# EAGLE library part A3949 (library Gyros)
DMOS Full-Bridge Motor Driver PWM controlled motor driver, capable of +/- 2.8A at up to 36V. Temp range -20 to 85 C
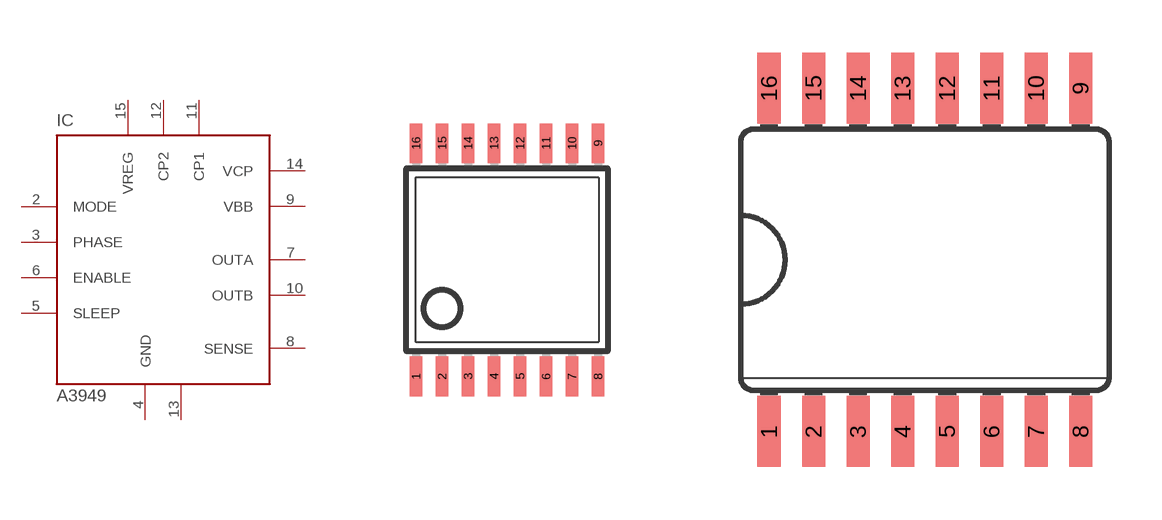
[diagram p17: symbol with the pads of TSSOP16; footprints TSSOP16, SO16L]

Designator prefix IC

## A3949SLP  [TSSOP16]
2  MODE  in
3  PHASE  in
4  GND  pwr
5  SLEEP  in
6  ENABLE  in
7  OUTA  out
8  SENSE  in
9  VBB  pwr
10  OUTB  out
11  CP1
12  CP2
13  GND2  pwr
14  VCP
15  VREG  out

## A3949SLB  [SO16L]
Pads as for TSSOP16

## Footprint TSSOP16 (pad centres in mm)
16-pin Thin Shrink Small Outline Package
smd 0.305 x 0.991: 1 -2.275,-2.918; 2 -1.625,-2.918; 3 -0.975,-2.918; 4 -0.325,-2.918; 5 0.325,-2.918; 6 0.975,-2.918; 7 1.625,-2.918; 8 2.275,-2.918; 9 2.275,2.918; 10 1.625,2.918; 11 0.975,2.918; 12 0.325,2.918; 13 -0.325,2.918; 14 -0.975,2.918; 15 -1.625,2.918; 16 -2.275,2.918

## Footprint SO16L (pad centres in mm)
16-pin Small Outline Package
smd 0.66 x 2.032: 1 -4.445,-4.902; 2 -3.175,-4.902; 3 -1.905,-4.902; 4 -0.635,-4.902; 5 0.635,-4.902; 6 1.905,-4.902; 7 3.175,-4.902; 8 4.445,-4.902; 9 4.445,4.902; 10 3.175,4.902; 11 1.905,4.902; 12 0.635,4.902; 13 -0.635,4.902; 14 -1.905,4.902; 15 -3.175,4.902; 16 -4.445,4.902